# Altium schematic symbol library MAX3353.SchLib: 1 symbol
Pins are listed as number, name and electrical type; pins without a type are passive.

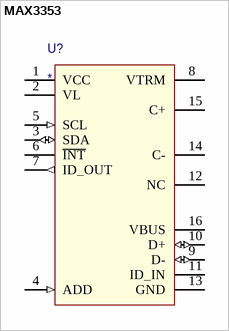
[diagram p0: symbol MAX3353]

## MAX3353
designator U?
pins: 1 VCC (power), 2 VL (power), 3 SDA (io), 4 ADD (in), 5 SCL (in), 6 ~{INT} (oc), 7 ID_OUT (out), 8 VTRM (power), 9 D- (io), 10 D+ (io), 11 ID_IN, 12 NC, 13 GND (power), 14 C-, 15 C+, 16 VBUS